# Altium schematic symbol library MAX490_Corrected_Symbol.SchLib: 1 symbol
Pins are listed as number, name and electrical type; pins without a type are passive.

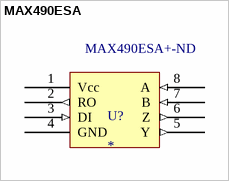
[diagram p0: symbol MAX490ESA]

## MAX490ESA
designator U?  Supplier Part Number 1: MAX490ESA+-ND
Line Transceiver, 1 Func, 1 Driver, 1 Rcvr, CMOS, PDSO8; Manufacturer: Maxim; Manufacturer Part Number: MAX490ESA+; Package Body Material: Plastic; Output Polarity: Complementary; Differential Output: Yes; Driver Number of Bits: 1; High Level Input Current-Max: 2uA; Input Characteristics: DIFFERENTIAL SCHMITT TRIGGER; Out Swing-Min: 1.5V; Output Characteristics: TOTEM-POLE; Output Low Current-Max: 4mA; Package Equivalence Code: SOP8,.25; Power Supplies: 5V; Receive Delay-Max: 150ns; Max Supply Current: 500uA; Max Supply Voltage: 5.25V; Min Supply Voltage: 4.75V; Transmit Delay-Max: 60ns; Qualification Status: Not Qualified; Supplier 1: Digikey; RoHS: Yes; Category: RS-232 / RS-422 / RS-485 Interface ICs; Stock 1: 736; Pricing 1: 1=6.18, 10=4.743, 25=4.3836, 100=3.9887, 300=3.76847, 500=3.68704, 1000=3.59368, 2500=3.4951 (USD); Case/Package: SOP; Pins: 8; Package Shape: Rectangular; Terminal Finish: Tin; Min Operating Temperature: -40°C; Max Operating Temperature: 85°C; JESD-609 Code: e3; Interface IC Type: LINE TRANSCEIVER; JESD-30 Code: R-PDSO-G8; Moisture Sensitivity Level: 1; Channels: 1; Package Style: SMALL OUTLINEMeter; Peak Reflow Temperature (Cel): 260°C; Receiver Number of Bits: 1; Nominal Supply Voltage: 5V; Surface Mount: Yes; Technology: CMOS; Terminal Form: Gull Wing; Terminal Position: DUAL; Length: 4.9mm; Width: 3.9mm; Height - Seated (Max): 1.75mm; Terminal Pitch: 1.27mm; Temperature Grade: INDUSTRIAL; Reach SVHC Compliant: Yes; RoHS Compliant: Yes; ComponentLink1URL: https://datasheet.ciiva.com:443/pdfs/VipMasterIC/IC/MAXM/MAXMS13366/MAXMS13366-1.pdf?src-supplier=IHS+Markit; ComponentLink1Description: https://datasheet.ciiva.com:443/pdfs/VipMasterIC/IC/MAXM/MAXMS13366/MAXMS13366-1.pdf?src-supplier=IHS+Markit; ComponentLink2URL: https://datasheet.ciiva.com/4786/max1487-max491-96074-4786046.pdf?src-supplier=Mouser; ComponentLink2Description: https://datasheet.ciiva.com/4786/max1487-max491-96074-4786046.pdf?src-supplier=Mouser; ComponentLink3URL: https://datasheet.ciiva.com/1713/max1487-max491-1713335.pdf?src-supplier=Digikey; ComponentLink3Description: https://datasheet.ciiva.com/1713/max1487-max491-1713335.pdf?src-supplier=Digikey; ComponentLink4URL: https://datasheet.ciiva.com/3028/max1487-max491-3028673.pdf?src-supplier=Avnet; ComponentLink4Description: https://datasheet.ciiva.com/3028/max1487-max491-3028673.pdf?src-supplier=Avnet
footprint SO-8_L (8-Pin Plastic Small Outline Integrated Circuit 1.27 mm Pitch, IPC High Density)
pins: 1 Vcc (power), 2 RO (out), 3 DI (in), 4 GND (power), 5 Y (out), 6 Z (out), 7 B (in), 8 A (in)